# Altium schematic symbol library SCH - ARM CORTEX - ST STM8L052 48PIN.SchLib: 1 symbol
Pins are listed as number, name and electrical type; pins without a type are passive.

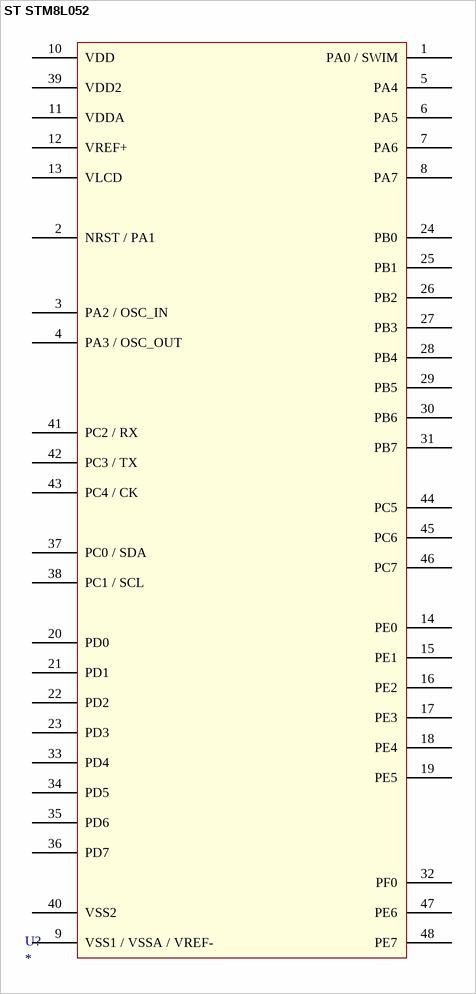
[diagram p0: symbol ST STM8L052]

## ST STM8L052
designator U?
8 bit ARM Cortex Processor
footprint NXP LQFP-48 7x7mm (LQFP, 48-Leads, Body 7.00x7.00mm, Pitch 0.50mm, IPC Medium Density)
pins: 1 PA0 / SWIM, 2 NRST / PA1, 3 PA2 / OSC_IN, 4 PA3 / OSC_OUT, 5 PA4, 6 PA5, 7 PA6, 8 PA7, 9 VSS1 / VSSA / VREF-, 10 VDD, 11 VDDA, 12 VREF+, 13 VLCD, 14 PE0, 15 PE1, 16 PE2, 17 PE3, 18 PE4, 19 PE5, 20 PD0, 21 PD1, 22 PD2, 23 PD3, 24 PB0, 25 PB1, 26 PB2, 27 PB3, 28 PB4, 29 PB5, 30 PB6, 31 PB7, 32 PF0, 33 PD4, 34 PD5, 35 PD6, 36 PD7, 37 PC0 / SDA, 38 PC1 / SCL, 39 VDD2, 40 VSS2, 41 PC2 / RX, 42 PC3 / TX, 43 PC4 / CK, 44 PC5, 45 PC6, 46 PC7, 47 PE6, 48 PE7